# Altium integrated library Infineon_Microcontroller.IntLib: 721 symbols (part 42 of 66)
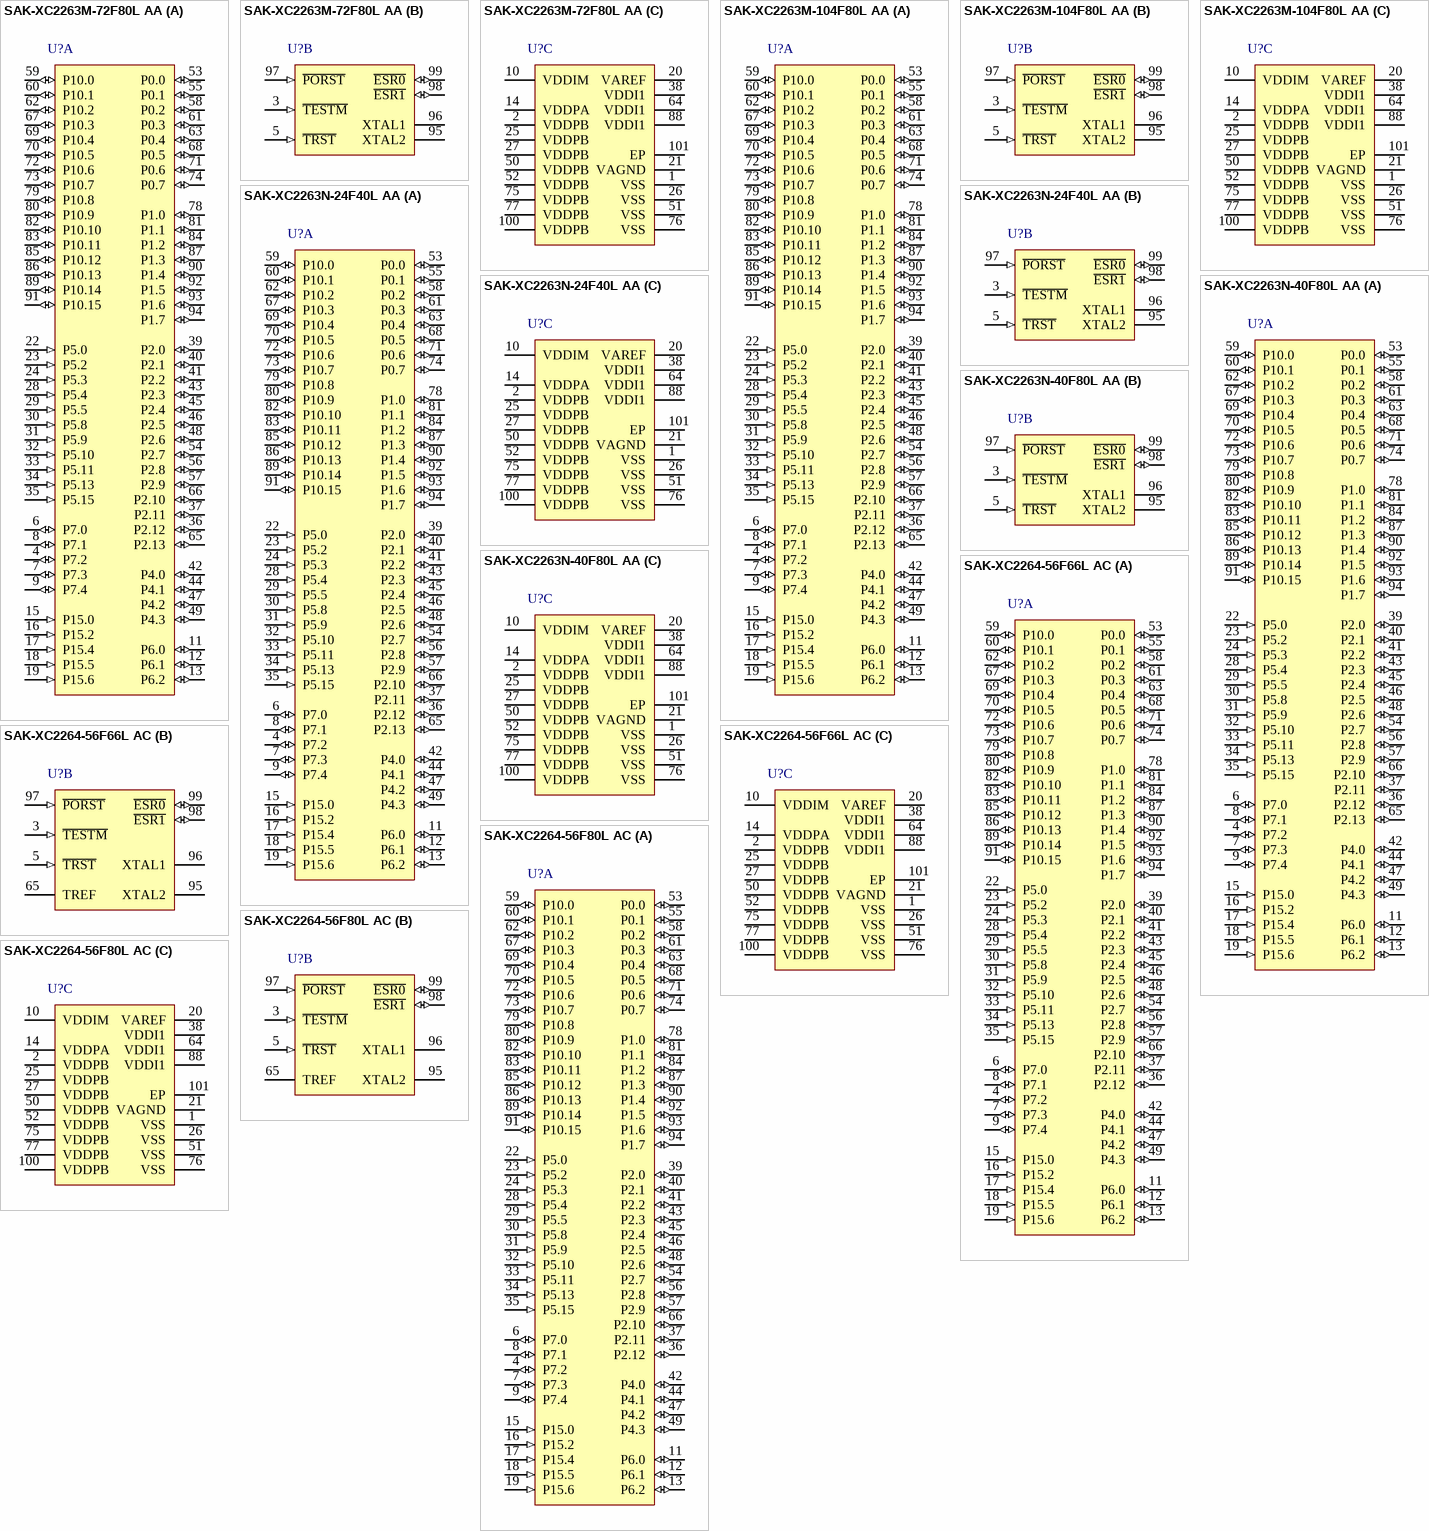
[diagram p159: symbols SAK-XC2263M-72F80L AA to SAK-XC2264-56F80L AC]

## SAK-XC2263M-72F80L AA
designator U?
80 MHz XC2200 MCU with 576 KByte Program Memory, 50 KByte SRAM, 3 V, 5.5 V, -40 to 125 degC, PG-LQFP-100, Reel, Green; Manufacturer: Infineon; PartNumber: SAK-XC2263M-72F80L AA; A / D input lines (incl. FADC): 16; CAN Nodes: 1; Digital I/O Lines: 76; DMA Channels: 8; DSP functionality (e.g MDU/MAC): TRUE; FlexRay TM: FALSE; Instruction width [bits]: 16/32; Max Clock Frequency: 80 MHz; Number of ADC Modules: 2; Power Modes: 3; Serial I/O Interfaces: 4; Timed I/O Pins (PWM-Ch,CAPCOM): up to 32; Timer / Counter: 17; Type of Memory: Flash; Type of Serial I/O Interfaces: SPI(4), LIN, UART, I2C, I2S; DatasheetVersion: Rev. 2.1; PackageVersion: Mar-13; PackageReference: PG-LQFP-100-8; PackageDescription: 100-Pin Plastic (Green) Low Profile Quad Flat Package, Body 14 x 14 mm, Pitch 0.5 mm; E2PROM Emulation (Data-Flash): TRUE; External Bus interface: TRUE; Green: TRUE; Halogen-free: available; I/O Operation Voltages: 3 V, 5.5 V; On-chip clock generation: TRUE; On-chip Voltage Regulator: TRUE; Oscillator Watchdog: TRUE; Program Memory: 576 KByte; Real Time Clock (RTC): TRUE; SRAM (incl. Cache): 50 KByte; Watchdog Timer: TRUE; Mounting Technology: Surface Mount; ComponentLink1Description: Manufacturer URL; ComponentLink1URL: http://www.infineon.com/; ComponentLink2Description: Datasheet; ComponentLink2URL: http://www.infineon.com/dgdl/xc226xm_ds_v2.1_2011_07.pdf?folderId=db3a3043132679fb01133eb909a307c3&fileId=db3a30433580b371013581363d8f004e; ComponentLink3Description: Package Specification; ComponentLink3URL: http://www.infineon.com/dgdl/PG-LQFP-100-3%2C-4%2C-8%2C-11-Package_Overview.pdf?folderId=db3a30431a5c32f2011a90c5ac475987&fileId=db3a30431a5c32f2011a9129fcd359d1
footprint INF-PG-LQFP-100-8-6200X6200TP_N (QFP, 100-Leads, Body 14x14mm, Pitch 0.5mm, Thermal Pad 6.2x6.2mm, IPC Medium Density)
footprint INF-PG-LQFP-100-8-6200X6200TP_L (QFP, 100-Leads, Body 14x14mm, Pitch 0.5mm, Thermal Pad 6.2x6.2mm, IPC High Density)
footprint INF-PG-LQFP-100-8-6200X6200TP_M (QFP, 100-Leads, Body 14x14mm, Pitch 0.5mm, Thermal Pad 6.2x6.2mm, IPC Low Density)
part A pins: 4 P7.2 (io), 6 P7.0 (io), 7 P7.3 (io), 8 P7.1 (io), 9 P7.4 (io), 11 P6.0 (io), 12 P6.1 (io), 13 P6.2 (io), 15 P15.0 (in), 16 P15.2 (in), 17 P15.4 (in), 18 P15.5 (in), 19 P15.6 (in), 22 P5.0 (in), 23 P5.2 (in), 24 P5.3 (in), 28 P5.4 (in), 29 P5.5 (in), 30 P5.8 (in), 31 P5.9 (in), 32 P5.10 (in), 33 P5.11 (in), 34 P5.13 (in), 35 P5.15 (in), 36 P2.12 (io), 37 P2.11 (io), 39 P2.0 (io), 40 P2.1 (io), 41 P2.2 (io), 42 P4.0 (io), 43 P2.3 (io), 44 P4.1 (io), 45 P2.4 (io), 46 P2.5 (io), 47 P4.2 (io), 48 P2.6 (io), 49 P4.3 (io), 53 P0.0 (io), 54 P2.7 (io), 55 P0.1 (io), 56 P2.8 (io), 57 P2.9 (io), 58 P0.2 (io), 59 P10.0 (io), 60 P10.1 (io), 61 P0.3 (io), 62 P10.2 (io), 63 P0.4 (io), 65 P2.13 (io), 66 P2.10 (io), 67 P10.3 (io), 68 P0.5 (io), 69 P10.4 (io), 70 P10.5 (io), 71 P0.6 (io), 72 P10.6 (io), 73 P10.7 (io), 74 P0.7 (io), 78 P1.0 (io), 79 P10.8 (io), 80 P10.9 (io), 81 P1.1 (io), 82 P10.10 (io), 83 P10.11 (io), 84 P1.2 (io), 85 P10.12 (io), 86 P10.13 (io), 87 P1.3 (io), 89 P10.14 (io), 90 P1.4 (io), 91 P10.15 (io), 92 P1.5 (io), 93 P1.6 (io), 94 P1.7 (io)
part B pins: 3 ~{TESTM} (in) "Testmode Enable", 5 ~{TRST} (in) "Test-System Reset Input", 95 XTAL2 "Crystal Oscillator Amplifier Output.", 96 XTAL1, 97 ~{PORST} (in) "Power On Reset Input.", 98 ~{ESR1} (io), 99 ~{ESR0} (io)
part C pins: 1 VSS (power) "Digital Ground.", 2 VDDPB (power) "Digital Pad Supply Voltage for Domain B.", 10 VDDIM (power) "Digital Core Supply Voltage for Domain M", 14 VDDPA (power) "Digital Pad Supply Voltage for Domain A.", 20 VAREF (power) "Reference Voltage for A/D Converters ADC0/1", 21 VAGND (power) "Reference Ground for A/D Converters ADC0/1", 25 VDDPB (power) "Digital Pad Supply Voltage for Domain B.", 26 VSS (power) "Digital Ground.", 27 VDDPB (power) "Digital Pad Supply Voltage for Domain B.", 38 VDDI1 (power) "Digital Core Supply Voltage for Domain 1", 50 VDDPB (power) "Digital Pad Supply Voltage for Domain B.", 51 VSS (power) "Digital Ground.", 52 VDDPB (power) "Digital Pad Supply Voltage for Domain B.", 64 VDDI1 (power) "Digital Core Supply Voltage for Domain 1", 75 VDDPB (power) "Digital Pad Supply Voltage for Domain B.", 76 VSS (power) "Digital Ground.", 77 VDDPB (power) "Digital Pad Supply Voltage for Domain B.", 88 VDDI1 (power) "Digital Core Supply Voltage for Domain 1", 100 VDDPB (power) "Digital Pad Supply Voltage for Domain B.", 101 EP (power)

## SAK-XC2263M-104F80L AA
designator U?
80 MHz XC2200 MCU with 832 KByte Program Memory, 50 KByte SRAM, 3 V, 5.5 V, -40 to 125 degC, PG-LQFP-100, Reel, Green; Manufacturer: Infineon; PartNumber: SAK-XC2263M-104F80L AA; A / D input lines (incl. FADC): 16; CAN Nodes: 1; Digital I/O Lines: 76; DMA Channels: 8; DSP functionality (e.g MDU/MAC): TRUE; FlexRay TM: FALSE; Instruction width [bits]: 16/32; Max Clock Frequency: 80 MHz; Number of ADC Modules: 2; Power Modes: 3; Serial I/O Interfaces: 4; Timed I/O Pins (PWM-Ch,CAPCOM): up to 32; Timer / Counter: 17; Type of Memory: Flash; Type of Serial I/O Interfaces: SPI(4), LIN, UART, I2C, I2S; DatasheetVersion: Rev. 2.1; PackageVersion: Mar-13; PackageReference: PG-LQFP-100-8; PackageDescription: 100-Pin Plastic (Green) Low Profile Quad Flat Package, Body 14 x 14 mm, Pitch 0.5 mm; E2PROM Emulation (Data-Flash): TRUE; External Bus interface: TRUE; Green: TRUE; Halogen-free: available; I/O Operation Voltages: 3 V, 5.5 V; On-chip clock generation: TRUE; On-chip Voltage Regulator: TRUE; Oscillator Watchdog: TRUE; Program Memory: 832 KByte; Real Time Clock (RTC): TRUE; SRAM (incl. Cache): 50 KByte; Watchdog Timer: TRUE; Mounting Technology: Surface Mount; ComponentLink1Description: Manufacturer URL; ComponentLink1URL: http://www.infineon.com/; ComponentLink2Description: Datasheet; ComponentLink2URL: http://www.infineon.com/dgdl/xc226xm_ds_v2.1_2011_07.pdf?folderId=db3a3043132679fb01133eb909a307c3&fileId=db3a30433580b371013581363d8f004e; ComponentLink3Description: Package Specification; ComponentLink3URL: http://www.infineon.com/dgdl/PG-LQFP-100-3%2C-4%2C-8%2C-11-Package_Overview.pdf?folderId=db3a30431a5c32f2011a90c5ac475987&fileId=db3a30431a5c32f2011a9129fcd359d1
footprint INF-PG-LQFP-100-8-6200X6200TP_N (QFP, 100-Leads, Body 14x14mm, Pitch 0.5mm, Thermal Pad 6.2x6.2mm, IPC Medium Density)
footprint INF-PG-LQFP-100-8-6200X6200TP_L (QFP, 100-Leads, Body 14x14mm, Pitch 0.5mm, Thermal Pad 6.2x6.2mm, IPC High Density)
footprint INF-PG-LQFP-100-8-6200X6200TP_M (QFP, 100-Leads, Body 14x14mm, Pitch 0.5mm, Thermal Pad 6.2x6.2mm, IPC Low Density)
part A pins: 4 P7.2 (io), 6 P7.0 (io), 7 P7.3 (io), 8 P7.1 (io), 9 P7.4 (io), 11 P6.0 (io), 12 P6.1 (io), 13 P6.2 (io), 15 P15.0 (in), 16 P15.2 (in), 17 P15.4 (in), 18 P15.5 (in), 19 P15.6 (in), 22 P5.0 (in), 23 P5.2 (in), 24 P5.3 (in), 28 P5.4 (in), 29 P5.5 (in), 30 P5.8 (in), 31 P5.9 (in), 32 P5.10 (in), 33 P5.11 (in), 34 P5.13 (in), 35 P5.15 (in), 36 P2.12 (io), 37 P2.11 (io), 39 P2.0 (io), 40 P2.1 (io), 41 P2.2 (io), 42 P4.0 (io), 43 P2.3 (io), 44 P4.1 (io), 45 P2.4 (io), 46 P2.5 (io), 47 P4.2 (io), 48 P2.6 (io), 49 P4.3 (io), 53 P0.0 (io), 54 P2.7 (io), 55 P0.1 (io), 56 P2.8 (io), 57 P2.9 (io), 58 P0.2 (io), 59 P10.0 (io), 60 P10.1 (io), 61 P0.3 (io), 62 P10.2 (io), 63 P0.4 (io), 65 P2.13 (io), 66 P2.10 (io), 67 P10.3 (io), 68 P0.5 (io), 69 P10.4 (io), 70 P10.5 (io), 71 P0.6 (io), 72 P10.6 (io), 73 P10.7 (io), 74 P0.7 (io), 78 P1.0 (io), 79 P10.8 (io), 80 P10.9 (io), 81 P1.1 (io), 82 P10.10 (io), 83 P10.11 (io), 84 P1.2 (io), 85 P10.12 (io), 86 P10.13 (io), 87 P1.3 (io), 89 P10.14 (io), 90 P1.4 (io), 91 P10.15 (io), 92 P1.5 (io), 93 P1.6 (io), 94 P1.7 (io)
part B pins: 3 ~{TESTM} (in) "Testmode Enable", 5 ~{TRST} (in) "Test-System Reset Input", 95 XTAL2 "Crystal Oscillator Amplifier Output.", 96 XTAL1, 97 ~{PORST} (in) "Power On Reset Input.", 98 ~{ESR1} (io), 99 ~{ESR0} (io)
part C pins: 1 VSS (power) "Digital Ground.", 2 VDDPB (power) "Digital Pad Supply Voltage for Domain B.", 10 VDDIM (power) "Digital Core Supply Voltage for Domain M", 14 VDDPA (power) "Digital Pad Supply Voltage for Domain A.", 20 VAREF (power) "Reference Voltage for A/D Converters ADC0/1", 21 VAGND (power) "Reference Ground for A/D Converters ADC0/1", 25 VDDPB (power) "Digital Pad Supply Voltage for Domain B.", 26 VSS (power) "Digital Ground.", 27 VDDPB (power) "Digital Pad Supply Voltage for Domain B.", 38 VDDI1 (power) "Digital Core Supply Voltage for Domain 1", 50 VDDPB (power) "Digital Pad Supply Voltage for Domain B.", 51 VSS (power) "Digital Ground.", 52 VDDPB (power) "Digital Pad Supply Voltage for Domain B.", 64 VDDI1 (power) "Digital Core Supply Voltage for Domain 1", 75 VDDPB (power) "Digital Pad Supply Voltage for Domain B.", 76 VSS (power) "Digital Ground.", 77 VDDPB (power) "Digital Pad Supply Voltage for Domain B.", 88 VDDI1 (power) "Digital Core Supply Voltage for Domain 1", 100 VDDPB (power) "Digital Pad Supply Voltage for Domain B.", 101 EP (power)

## SAK-XC2263N-24F40L AA
designator U?
40 MHz XC2200 MCU with 192 KByte Program Memory, 34 KByte SRAM, 3 V, 5.5 V, -40 to 125 degC, PG-LQFP-100, Reel, Green; Manufacturer: Infineon; PartNumber: SAK-XC2263N-24F40L AA; A / D input lines (incl. FADC): 16; CAN Nodes: 1; Digital I/O Lines: 76; DMA Channels: 8; DSP functionality (e.g MDU/MAC): TRUE; FlexRay TM: FALSE; Instruction width [bits]: 16/32; Max Clock Frequency: 40 MHz; Number of ADC Modules: 2; Power Modes: 3; Serial I/O Interfaces: 4; Timed I/O Pins (PWM-Ch,CAPCOM): up to 32; Timer / Counter: 13; Type of Memory: Flash; Type of Serial I/O Interfaces: SPI(4), LIN, UART, I2C, I2S; DatasheetVersion: Rev. 1.5; PackageVersion: Mar-13; PackageReference: PG-LQFP-100-8; PackageDescription: 100-Pin Plastic (Green) Low Profile Quad Flat Package, Body 14 x 14 mm, Pitch 0.5 mm; Supplier 1: Mouser; Supplier Part Number 1: 726-KXC2263N24F40LAA; Supplier 2: Digi-Key; Supplier Part Number 2: SAK-XC2263N-24F40L AA-ND; E2PROM Emulation (Data-Flash): TRUE; External Bus interface: TRUE; Green: TRUE; Halogen-free: TRUE; I/O Operation Voltages: 3 V, 5.5 V; On-chip clock generation: TRUE; On-chip Voltage Regulator: TRUE; Oscillator Watchdog: TRUE; Packing: Reel; Program Memory: 192 KByte; Real Time Clock (RTC): TRUE; SRAM (incl. Cache): 34 KByte; Watchdog Timer: TRUE; Mounting Technology: Surface Mount; ComponentLink1Description: Manufacturer URL; ComponentLink1URL: http://www.infineon.com/; ComponentLink2Description: Datasheet; ComponentLink2URL: http://www.infineon.com/dgdl/xc226xn_ds_v1.4_2011_07.pdf?folderId=db3a3043132679fb01133eb909a307c3&fileId=db3a304326c2768b0126c2ef67f30017; ComponentLink3Description: Package Specification; ComponentLink3URL: http://www.infineon.com/dgdl/PG-LQFP-100-3%2C-4%2C-8%2C-11-Package_Overview.pdf?folderId=db3a30431a5c32f2011a90c5ac475987&fileId=db3a30431a5c32f2011a9129fcd359d1
footprint INF-PG-LQFP-100-8-6200X6200TP_N (QFP, 100-Leads, Body 14x14mm, Pitch 0.5mm, Thermal Pad 6.2x6.2mm, IPC Medium Density)
footprint INF-PG-LQFP-100-8-6200X6200TP_L (QFP, 100-Leads, Body 14x14mm, Pitch 0.5mm, Thermal Pad 6.2x6.2mm, IPC High Density)
footprint INF-PG-LQFP-100-8-6200X6200TP_M (QFP, 100-Leads, Body 14x14mm, Pitch 0.5mm, Thermal Pad 6.2x6.2mm, IPC Low Density)
part A pins: 4 P7.2 (io), 6 P7.0 (io), 7 P7.3 (io), 8 P7.1 (io), 9 P7.4 (io), 11 P6.0 (io), 12 P6.1 (io), 13 P6.2 (io), 15 P15.0 (in), 16 P15.2 (in), 17 P15.4 (in), 18 P15.5 (in), 19 P15.6 (in), 22 P5.0 (in), 23 P5.2 (in), 24 P5.3 (in), 28 P5.4 (in), 29 P5.5 (in), 30 P5.8 (in), 31 P5.9 (in), 32 P5.10 (in), 33 P5.11 (in), 34 P5.13 (in), 35 P5.15 (in), 36 P2.12 (io), 37 P2.11 (io), 39 P2.0 (io), 40 P2.1 (io), 41 P2.2 (io), 42 P4.0 (io), 43 P2.3 (io), 44 P4.1 (io), 45 P2.4 (io), 46 P2.5 (io), 47 P4.2 (io), 48 P2.6 (io), 49 P4.3 (io), 53 P0.0 (io), 54 P2.7 (io), 55 P0.1 (io), 56 P2.8 (io), 57 P2.9 (io), 58 P0.2 (io), 59 P10.0 (io), 60 P10.1 (io), 61 P0.3 (io), 62 P10.2 (io), 63 P0.4 (io), 65 P2.13 (io), 66 P2.10 (io), 67 P10.3 (io), 68 P0.5 (io), 69 P10.4 (io), 70 P10.5 (io), 71 P0.6 (io), 72 P10.6 (io), 73 P10.7 (io), 74 P0.7 (io), 78 P1.0 (io), 79 P10.8 (io), 80 P10.9 (io), 81 P1.1 (io), 82 P10.10 (io), 83 P10.11 (io), 84 P1.2 (io), 85 P10.12 (io), 86 P10.13 (io), 87 P1.3 (io), 89 P10.14 (io), 90 P1.4 (io), 91 P10.15 (io), 92 P1.5 (io), 93 P1.6 (io), 94 P1.7 (io)
part B pins: 3 ~{TESTM} (in) "Testmode Enable", 5 ~{TRST} (in) "Test-System Reset Input", 95 XTAL2 "Crystal Oscillator Amplifier Output.", 96 XTAL1, 97 ~{PORST} (in) "Power On Reset Input.", 98 ~{ESR1} (io), 99 ~{ESR0} (io)
part C pins: 1 VSS (power) "Digital Ground.", 2 VDDPB (power) "Digital Pad Supply Voltage for Domain B.", 10 VDDIM (power) "Digital Core Supply Voltage for Domain M", 14 VDDPA (power) "Digital Pad Supply Voltage for Domain A.", 20 VAREF (power) "Reference Voltage for A/D Converters ADC0/1", 21 VAGND (power) "Reference Ground for A/D Converters ADC0/1", 25 VDDPB (power) "Digital Pad Supply Voltage for Domain B.", 26 VSS (power) "Digital Ground.", 27 VDDPB (power) "Digital Pad Supply Voltage for Domain B.", 38 VDDI1 (power) "Digital Core Supply Voltage for Domain 1", 50 VDDPB (power) "Digital Pad Supply Voltage for Domain B.", 51 VSS (power) "Digital Ground.", 52 VDDPB (power) "Digital Pad Supply Voltage for Domain B.", 64 VDDI1 (power) "Digital Core Supply Voltage for Domain 1", 75 VDDPB (power) "Digital Pad Supply Voltage for Domain B.", 76 VSS (power) "Digital Ground.", 77 VDDPB (power) "Digital Pad Supply Voltage for Domain B.", 88 VDDI1 (power) "Digital Core Supply Voltage for Domain 1", 100 VDDPB (power) "Digital Pad Supply Voltage for Domain B.", 101 EP (power)

## SAK-XC2263N-40F80L AA
designator U?
80 MHz XC2200 MCU with 320 KByte Program Memory, 34 KByte SRAM, 3 V, 5.5 V, -40 to 125 degC, PG-LQFP-100, Reel, Green; Manufacturer: Infineon; PartNumber: SAK-XC2263N-40F80L AA; A / D input lines (incl. FADC): 16; CAN Nodes: 1; Digital I/O Lines: 76; DMA Channels: 8; DSP functionality (e.g MDU/MAC): TRUE; FlexRay TM: FALSE; Instruction width [bits]: 16/32; Max Clock Frequency: 80 MHz; Number of ADC Modules: 2; Power Modes: 3; Serial I/O Interfaces: 4; Timed I/O Pins (PWM-Ch,CAPCOM): up to 32; Timer / Counter: 13; Type of Memory: Flash; Type of Serial I/O Interfaces: SPI(4), LIN, UART, I2C, I2S; DatasheetVersion: Rev. 1.5; PackageVersion: Mar-13; PackageReference: PG-LQFP-100-8; PackageDescription: 100-Pin Plastic (Green) Low Profile Quad Flat Package, Body 14 x 14 mm, Pitch 0.5 mm; E2PROM Emulation (Data-Flash): TRUE; External Bus interface: TRUE; Green: TRUE; Halogen-free: available; I/O Operation Voltages: 3 V, 5.5 V; On-chip clock generation: TRUE; On-chip Voltage Regulator: TRUE; Oscillator Watchdog: TRUE; Packing: Reel; Program Memory: 320 KByte; Real Time Clock (RTC): TRUE; SRAM (incl. Cache): 34 KByte; Watchdog Timer: TRUE; Mounting Technology: Surface Mount; ComponentLink1Description: Manufacturer URL; ComponentLink1URL: http://www.infineon.com/; ComponentLink2Description: Datasheet; ComponentLink2URL: http://www.infineon.com/dgdl/xc226xn_ds_v1.4_2011_07.pdf?folderId=db3a3043132679fb01133eb909a307c3&fileId=db3a304326c2768b0126c2ef67f30017; ComponentLink3Description: Package Specification; ComponentLink3URL: http://www.infineon.com/dgdl/PG-LQFP-100-3%2C-4%2C-8%2C-11-Package_Overview.pdf?folderId=db3a30431a5c32f2011a90c5ac475987&fileId=db3a30431a5c32f2011a9129fcd359d1
footprint INF-PG-LQFP-100-8-6200X6200TP_N (QFP, 100-Leads, Body 14x14mm, Pitch 0.5mm, Thermal Pad 6.2x6.2mm, IPC Medium Density)
footprint INF-PG-LQFP-100-8-6200X6200TP_L (QFP, 100-Leads, Body 14x14mm, Pitch 0.5mm, Thermal Pad 6.2x6.2mm, IPC High Density)
footprint INF-PG-LQFP-100-8-6200X6200TP_M (QFP, 100-Leads, Body 14x14mm, Pitch 0.5mm, Thermal Pad 6.2x6.2mm, IPC Low Density)
part A pins: 4 P7.2 (io), 6 P7.0 (io), 7 P7.3 (io), 8 P7.1 (io), 9 P7.4 (io), 11 P6.0 (io), 12 P6.1 (io), 13 P6.2 (io), 15 P15.0 (in), 16 P15.2 (in), 17 P15.4 (in), 18 P15.5 (in), 19 P15.6 (in), 22 P5.0 (in), 23 P5.2 (in), 24 P5.3 (in), 28 P5.4 (in), 29 P5.5 (in), 30 P5.8 (in), 31 P5.9 (in), 32 P5.10 (in), 33 P5.11 (in), 34 P5.13 (in), 35 P5.15 (in), 36 P2.12 (io), 37 P2.11 (io), 39 P2.0 (io), 40 P2.1 (io), 41 P2.2 (io), 42 P4.0 (io), 43 P2.3 (io), 44 P4.1 (io), 45 P2.4 (io), 46 P2.5 (io), 47 P4.2 (io), 48 P2.6 (io), 49 P4.3 (io), 53 P0.0 (io), 54 P2.7 (io), 55 P0.1 (io), 56 P2.8 (io), 57 P2.9 (io), 58 P0.2 (io), 59 P10.0 (io), 60 P10.1 (io), 61 P0.3 (io), 62 P10.2 (io), 63 P0.4 (io), 65 P2.13 (io), 66 P2.10 (io), 67 P10.3 (io), 68 P0.5 (io), 69 P10.4 (io), 70 P10.5 (io), 71 P0.6 (io), 72 P10.6 (io), 73 P10.7 (io), 74 P0.7 (io), 78 P1.0 (io), 79 P10.8 (io), 80 P10.9 (io), 81 P1.1 (io), 82 P10.10 (io), 83 P10.11 (io), 84 P1.2 (io), 85 P10.12 (io), 86 P10.13 (io), 87 P1.3 (io), 89 P10.14 (io), 90 P1.4 (io), 91 P10.15 (io), 92 P1.5 (io), 93 P1.6 (io), 94 P1.7 (io)
part B pins: 3 ~{TESTM} (in) "Testmode Enable", 5 ~{TRST} (in) "Test-System Reset Input", 95 XTAL2 "Crystal Oscillator Amplifier Output.", 96 XTAL1, 97 ~{PORST} (in) "Power On Reset Input.", 98 ~{ESR1} (io), 99 ~{ESR0} (io)
part C pins: 1 VSS (power) "Digital Ground.", 2 VDDPB (power) "Digital Pad Supply Voltage for Domain B.", 10 VDDIM (power) "Digital Core Supply Voltage for Domain M", 14 VDDPA (power) "Digital Pad Supply Voltage for Domain A.", 20 VAREF (power) "Reference Voltage for A/D Converters ADC0/1", 21 VAGND (power) "Reference Ground for A/D Converters ADC0/1", 25 VDDPB (power) "Digital Pad Supply Voltage for Domain B.", 26 VSS (power) "Digital Ground.", 27 VDDPB (power) "Digital Pad Supply Voltage for Domain B.", 38 VDDI1 (power) "Digital Core Supply Voltage for Domain 1", 50 VDDPB (power) "Digital Pad Supply Voltage for Domain B.", 51 VSS (power) "Digital Ground.", 52 VDDPB (power) "Digital Pad Supply Voltage for Domain B.", 64 VDDI1 (power) "Digital Core Supply Voltage for Domain 1", 75 VDDPB (power) "Digital Pad Supply Voltage for Domain B.", 76 VSS (power) "Digital Ground.", 77 VDDPB (power) "Digital Pad Supply Voltage for Domain B.", 88 VDDI1 (power) "Digital Core Supply Voltage for Domain 1", 100 VDDPB (power) "Digital Pad Supply Voltage for Domain B.", 101 EP (power)

## SAK-XC2264-56F66L AC
designator U?
66 MHz XC2200 MCU with 448 KByte Program Memory, 34 KByte SRAM, 3 V, 5.5 V, -40 to 125 degC, PG-LQFP-100, Reel, Green; Manufacturer: Infineon; PartNumber: SAK-XC2264-56F66L AC; A / D input lines (incl. FADC): 8; CAN Nodes: 2; Digital I/O Lines: 75; DSP functionality (e.g MDU/MAC): TRUE; FlexRay TM: FALSE; Instruction width [bits]: 16/32; Max Clock Frequency: 66 MHz; Number of ADC Modules: 1; Power Modes: 3; Serial I/O Interfaces: 4; Timed I/O Pins (PWM-Ch,CAPCOM): 44; Timer / Counter: 11; Type of Memory: Flash; Type of Serial I/O Interfaces: SPI(2), LIN(2); DatasheetVersion: Rev. 2.1; PackageVersion: Mar-13; PackageReference: PG-LQFP-100-3; PackageDescription: 100-Pin Plastic (Green) Low Profile Quad Flat Package, Body 14 x 14 mm, Pitch 0.5 mm; Supplier 1: Digi-Key; Supplier Part Number 1: SAK-XC2264-56F66LACINTR-ND; Supplier 2: Digi-Key; Supplier Part Number 2: SAK-XC2264-56F66LACINCT-ND; Supplier 3: Digi-Key; Supplier Part Number 3: SAK-XC2264-56F66LACINDKR-ND; DMA Channels: 8; E2PROM Emulation (Data-Flash): TRUE; External Bus interface: TRUE; Green: TRUE; Halogen-free: TRUE; I/O Operation Voltages: 3 V, 5.5 V; On-chip clock generation: TRUE; On-chip Voltage Regulator: TRUE; Oscillator Watchdog: TRUE; Packing: Reel; Program Memory: 448 KByte; Real Time Clock (RTC): TRUE; SRAM (incl. Cache): 34 KByte; Watchdog Timer: TRUE; Mounting Technology: Surface Mount; ComponentLink1Description: Manufacturer URL; ComponentLink1URL: http://www.infineon.com/; ComponentLink2Description: Datasheet; ComponentLink2URL: http://www.infineon.com/dgdl/xc226x_ds_v2.1_2008_08.pdf?folderId=db3a304412b407950112b408e8c90004&fileId=db3a304412b407950112b4093b04016a; ComponentLink3Description: Package Specification; ComponentLink3URL: http://www.infineon.com/dgdl/PG-LQFP-100-3%2C-4%2C-8%2C-11-Package_Overview.pdf?folderId=db3a30431a5c32f2011a90c5ac475987&fileId=db3a30431a5c32f2011a9129fcd359d1
footprint INF-PG-LQFP-100-3-6200X6200TP_N (QFP, 100-Leads, Body 14x14mm, Pitch 0.5mm, Thermal Pad 6.2x6.2mm, IPC Medium Density)
footprint INF-PG-LQFP-100-3-6200X6200TP_L (QFP, 100-Leads, Body 14x14mm, Pitch 0.5mm, Thermal Pad 6.2x6.2mm, IPC High Density)
footprint INF-PG-LQFP-100-3-6200X6200TP_M (QFP, 100-Leads, Body 14x14mm, Pitch 0.5mm, Thermal Pad 6.2x6.2mm, IPC Low Density)
part A pins: 4 P7.2 (io), 6 P7.0 (io), 7 P7.3 (io), 8 P7.1 (io), 9 P7.4 (io), 11 P6.0 (io), 12 P6.1 (io), 13 P6.2 (io), 15 P15.0 (in), 16 P15.2 (in), 17 P15.4 (in), 18 P15.5 (in), 19 P15.6 (in), 22 P5.0 (in), 23 P5.2 (in), 24 P5.3 (in), 28 P5.4 (in), 29 P5.5 (in), 30 P5.8 (in), 31 P5.9 (in), 32 P5.10 (in), 33 P5.11 (in), 34 P5.13 (in), 35 P5.15 (in), 36 P2.12 (io), 37 P2.11 (io), 39 P2.0 (io), 40 P2.1 (io), 41 P2.2 (io), 42 P4.0 (io), 43 P2.3 (io), 44 P4.1 (io), 45 P2.4 (io), 46 P2.5 (io), 47 P4.2 (io), 48 P2.6 (io), 49 P4.3 (io), 53 P0.0 (io), 54 P2.7 (io), 55 P0.1 (io), 56 P2.8 (io), 57 P2.9 (io), 58 P0.2 (io), 59 P10.0 (io), 60 P10.1 (io), 61 P0.3 (io), 62 P10.2 (io), 63 P0.4 (io), 66 P2.10 (io), 67 P10.3 (io), 68 P0.5 (io), 69 P10.4 (io), 70 P10.5 (io), 71 P0.6 (io), 72 P10.6 (io), 73 P10.7 (io), 74 P0.7 (io), 78 P1.0 (io), 79 P10.8 (io), 80 P10.9 (io), 81 P1.1 (io), 82 P10.10 (io), 83 P10.11 (io), 84 P1.2 (io), 85 P10.12 (io), 86 P10.13 (io), 87 P1.3 (io), 89 P10.14 (io), 90 P1.4 (io), 91 P10.15 (io), 92 P1.5 (io), 93 P1.6 (io), 94 P1.7 (io)
part B pins: 3 ~{TESTM} (in) "Testmode Enable", 5 ~{TRST} (in) "Test-System Reset Input", 65 TREF "Control Pin for Core Voltage Generation", 95 XTAL2 "Crystal Oscillator Amplifier Output.", 96 XTAL1 "Crystal Oscillator Amplifier Input.", 97 ~{PORST} (in) "Power On Reset Input.", 98 ~{ESR1} (io), 99 ~{ESR0} (io)
part C pins: 1 VSS (power) "Digital Ground.", 2 VDDPB (power) "Digital Pad Supply Voltage for Domain B.", 10 VDDIM (power) "Digital Core Supply Voltage for Domain M", 14 VDDPA (power) "Digital Pad Supply Voltage for Domain A.", 20 VAREF (power) "Reference Voltage for A/D Converters ADC0/1", 21 VAGND (power) "Reference Ground for A/D Converters ADC0/1", 25 VDDPB (power) "Digital Pad Supply Voltage for Domain B.", 26 VSS (power) "Digital Ground.", 27 VDDPB (power) "Digital Pad Supply Voltage for Domain B.", 38 VDDI1 (power) "Digital Core Supply Voltage for Domain 1", 50 VDDPB (power) "Digital Pad Supply Voltage for Domain B.", 51 VSS (power) "Digital Ground.", 52 VDDPB (power) "Digital Pad Supply Voltage for Domain B.", 64 VDDI1 (power) "Digital Core Supply Voltage for Domain 1", 75 VDDPB (power) "Digital Pad Supply Voltage for Domain B.", 76 VSS (power) "Digital Ground.", 77 VDDPB (power) "Digital Pad Supply Voltage for Domain B.", 88 VDDI1 (power) "Digital Core Supply Voltage for Domain 1", 100 VDDPB (power) "Digital Pad Supply Voltage for Domain B.", 101 EP (power)

## SAK-XC2264-56F80L AC
designator U?
80 MHz XC2200 MCU with 448 KByte Program Memory, 34 KByte SRAM, 3 V, 5.5 V, -40 to 125 degC, PG-LQFP-100, Reel, Green; Manufacturer: Infineon; PartNumber: SAK-XC2264-56F80L AC; A / D input lines (incl. FADC): 8; CAN Nodes: 2; Digital I/O Lines: 75; DSP functionality (e.g MDU/MAC): TRUE; FlexRay TM: FALSE; Instruction width [bits]: 16/32; Max Clock Frequency: 80 MHz; Number of ADC Modules: 1; Power Modes: 3; Serial I/O Interfaces: 4; Timed I/O Pins (PWM-Ch,CAPCOM): 24; Timer / Counter: 11; Type of Memory: Flash; Type of Serial I/O Interfaces: SPI(2), LIN(2); DatasheetVersion: Rev. 2.1; PackageVersion: Mar-13; PackageReference: PG-LQFP-100-3; PackageDescription: 100-Pin Plastic (Green) Low Profile Quad Flat Package, Body 14 x 14 mm, Pitch 0.5 mm; DMA Channels: 8; E2PROM Emulation (Data-Flash): TRUE; External Bus interface: TRUE; Green: TRUE; I/O Operation Voltages: 3 V, 5.5 V; On-chip clock generation: TRUE; On-chip Voltage Regulator: TRUE; Oscillator Watchdog: TRUE; Program Memory: 448 KByte; Real Time Clock (RTC): TRUE; SRAM (incl. Cache): 34 KByte; Watchdog Timer: TRUE; Mounting Technology: Surface Mount; ComponentLink1Description: Manufacturer URL; ComponentLink1URL: http://www.infineon.com/; ComponentLink2Description: Datasheet; ComponentLink2URL: http://www.infineon.com/dgdl/xc226x_ds_v2.1_2008_08.pdf?folderId=db3a304412b407950112b408e8c90004&fileId=db3a304412b407950112b4093b04016a; ComponentLink3Description: Package Specification; ComponentLink3URL: http://www.infineon.com/dgdl/PG-LQFP-100-3%2C-4%2C-8%2C-11-Package_Overview.pdf?folderId=db3a30431a5c32f2011a90c5ac475987&fileId=db3a30431a5c32f2011a9129fcd359d1
footprint INF-PG-LQFP-100-3-6200X6200TP_N (QFP, 100-Leads, Body 14x14mm, Pitch 0.5mm, Thermal Pad 6.2x6.2mm, IPC Medium Density)
footprint INF-PG-LQFP-100-3-6200X6200TP_L (QFP, 100-Leads, Body 14x14mm, Pitch 0.5mm, Thermal Pad 6.2x6.2mm, IPC High Density)
footprint INF-PG-LQFP-100-3-6200X6200TP_M (QFP, 100-Leads, Body 14x14mm, Pitch 0.5mm, Thermal Pad 6.2x6.2mm, IPC Low Density)
part A pins: 4 P7.2 (io), 6 P7.0 (io), 7 P7.3 (io), 8 P7.1 (io), 9 P7.4 (io), 11 P6.0 (io), 12 P6.1 (io), 13 P6.2 (io), 15 P15.0 (in), 16 P15.2 (in), 17 P15.4 (in), 18 P15.5 (in), 19 P15.6 (in), 22 P5.0 (in), 23 P5.2 (in), 24 P5.3 (in), 28 P5.4 (in), 29 P5.5 (in), 30 P5.8 (in), 31 P5.9 (in), 32 P5.10 (in), 33 P5.11 (in), 34 P5.13 (in), 35 P5.15 (in), 36 P2.12 (io), 37 P2.11 (io), 39 P2.0 (io), 40 P2.1 (io), 41 P2.2 (io), 42 P4.0 (io), 43 P2.3 (io), 44 P4.1 (io), 45 P2.4 (io), 46 P2.5 (io), 47 P4.2 (io), 48 P2.6 (io), 49 P4.3 (io), 53 P0.0 (io), 54 P2.7 (io), 55 P0.1 (io), 56 P2.8 (io), 57 P2.9 (io), 58 P0.2 (io), 59 P10.0 (io), 60 P10.1 (io), 61 P0.3 (io), 62 P10.2 (io), 63 P0.4 (io), 66 P2.10 (io), 67 P10.3 (io), 68 P0.5 (io), 69 P10.4 (io), 70 P10.5 (io), 71 P0.6 (io), 72 P10.6 (io), 73 P10.7 (io), 74 P0.7 (io), 78 P1.0 (io), 79 P10.8 (io), 80 P10.9 (io), 81 P1.1 (io), 82 P10.10 (io), 83 P10.11 (io), 84 P1.2 (io), 85 P10.12 (io), 86 P10.13 (io), 87 P1.3 (io), 89 P10.14 (io), 90 P1.4 (io), 91 P10.15 (io), 92 P1.5 (io), 93 P1.6 (io), 94 P1.7 (io)
part B pins: 3 ~{TESTM} (in) "Testmode Enable", 5 ~{TRST} (in) "Test-System Reset Input", 65 TREF "Control Pin for Core Voltage Generation", 95 XTAL2 "Crystal Oscillator Amplifier Output.", 96 XTAL1 "Crystal Oscillator Amplifier Input.", 97 ~{PORST} (in) "Power On Reset Input.", 98 ~{ESR1} (io), 99 ~{ESR0} (io)
part C pins: 1 VSS (power) "Digital Ground.", 2 VDDPB (power) "Digital Pad Supply Voltage for Domain B.", 10 VDDIM (power) "Digital Core Supply Voltage for Domain M", 14 VDDPA (power) "Digital Pad Supply Voltage for Domain A.", 20 VAREF (power) "Reference Voltage for A/D Converters ADC0/1", 21 VAGND (power) "Reference Ground for A/D Converters ADC0/1", 25 VDDPB (power) "Digital Pad Supply Voltage for Domain B.", 26 VSS (power) "Digital Ground.", 27 VDDPB (power) "Digital Pad Supply Voltage for Domain B.", 38 VDDI1 (power) "Digital Core Supply Voltage for Domain 1", 50 VDDPB (power) "Digital Pad Supply Voltage for Domain B.", 51 VSS (power) "Digital Ground.", 52 VDDPB (power) "Digital Pad Supply Voltage for Domain B.", 64 VDDI1 (power) "Digital Core Supply Voltage for Domain 1", 75 VDDPB (power) "Digital Pad Supply Voltage for Domain B.", 76 VSS (power) "Digital Ground.", 77 VDDPB (power) "Digital Pad Supply Voltage for Domain B.", 88 VDDI1 (power) "Digital Core Supply Voltage for Domain 1", 100 VDDPB (power) "Digital Pad Supply Voltage for Domain B.", 101 EP (power)

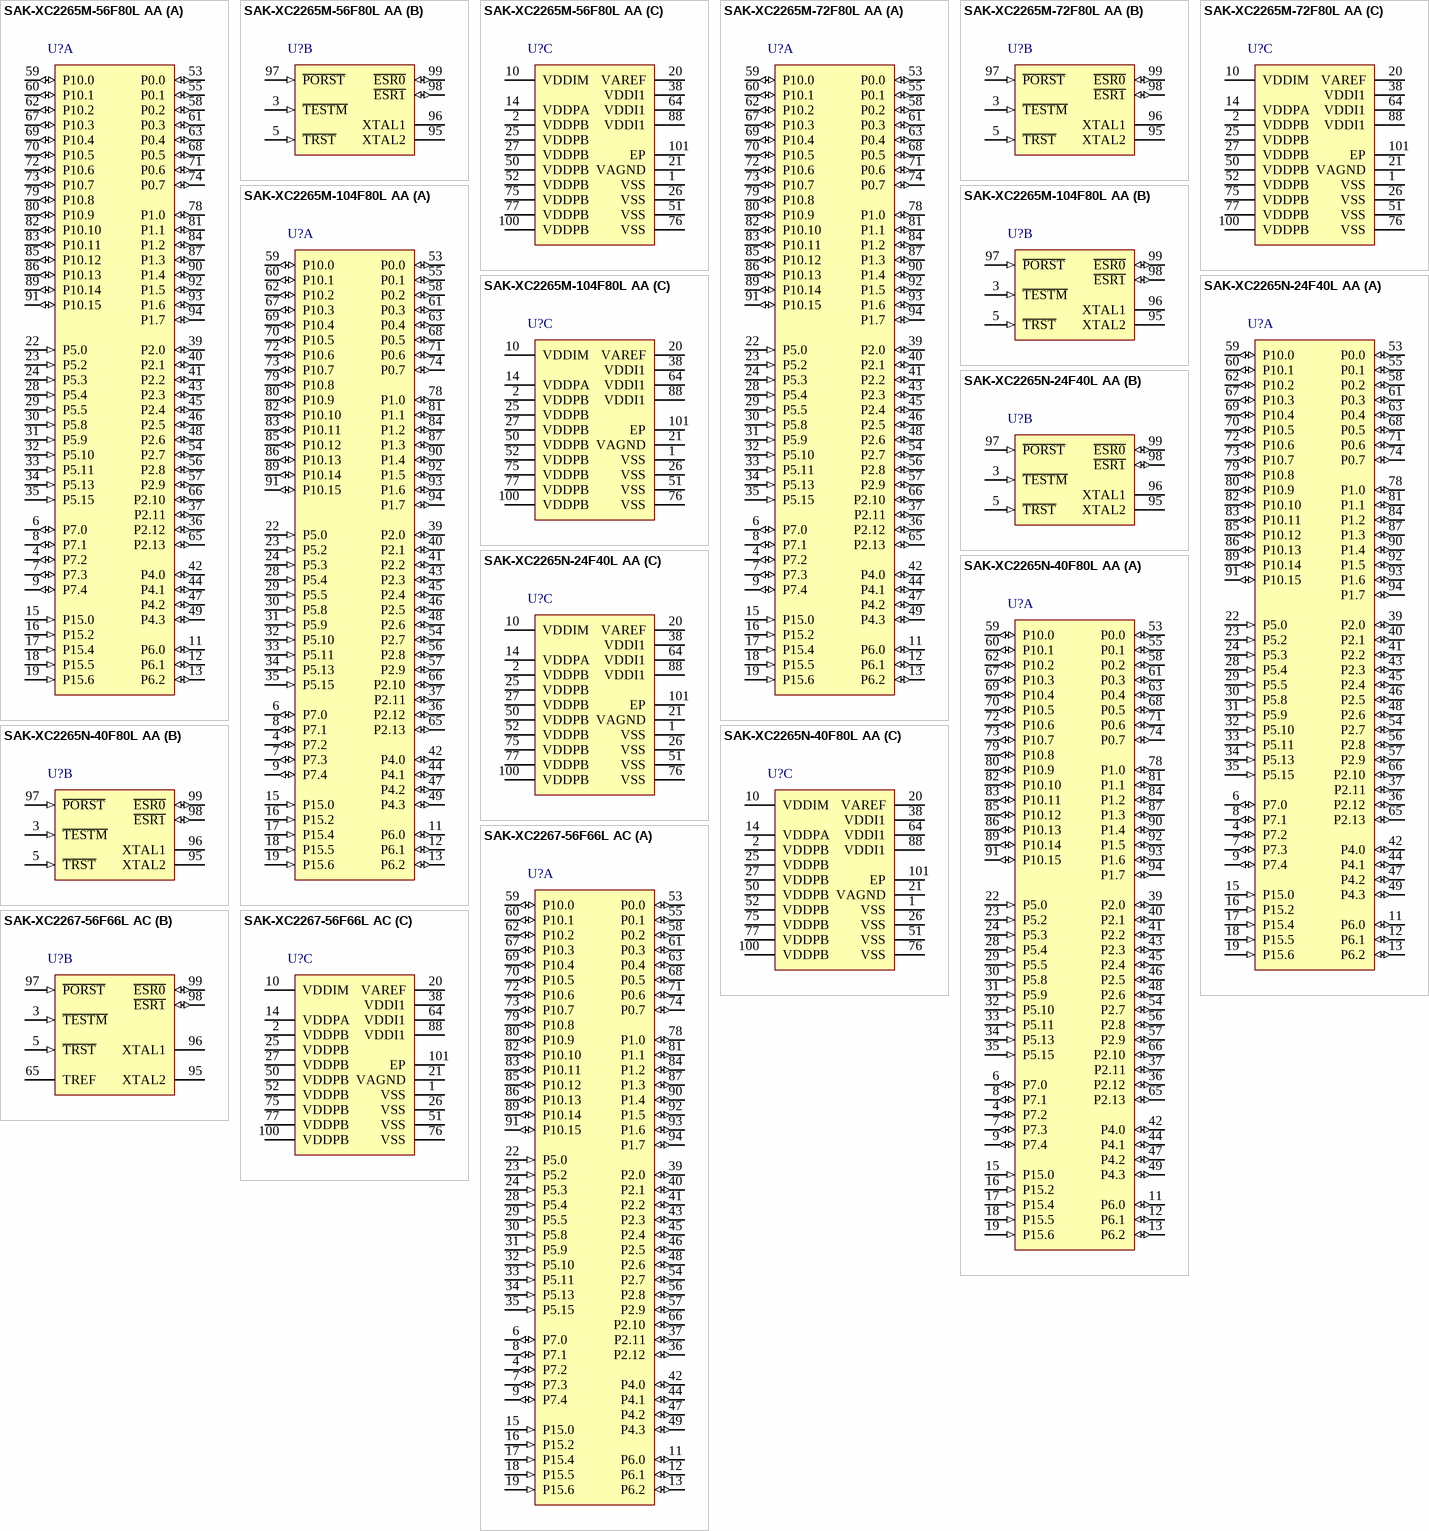
[diagram p74: symbols SAK-XC2265M-56F80L AA to SAK-XC2267-56F66L AC]

## SAK-XC2265M-56F80L AA
designator U?
80 MHz XC2200 MCU with 448 KByte Program Memory, 50 KByte SRAM, 3 V, 5.5 V, -40 to 125 degC, PG-LQFP-100, Reel, Green; Manufacturer: Infineon; PartNumber: SAK-XC2265M-56F80L AA; A / D input lines (incl. FADC): 16; CAN Nodes: 3; Digital I/O Lines: 76; DMA Channels: 8; DSP functionality (e.g MDU/MAC): TRUE; FlexRay TM: FALSE; Instruction width [bits]: 16/32; Max Clock Frequency: 80 MHz; Number of ADC Modules: 2; Serial I/O Interfaces: 6; Timed I/O Pins (PWM-Ch,CAPCOM): up to 32; Timer / Counter: 17; Type of Memory: Flash; Type of Serial I/O Interfaces: SPI(6), LIN, UART, I2C, I2S; DatasheetVersion: Rev. 2.1; PackageVersion: Mar-13; PackageReference: PG-LQFP-100-8; PackageDescription: 100-Pin Plastic (Green) Low Profile Quad Flat Package, Body 14 x 14 mm, Pitch 0.5 mm; E2PROM Emulation (Data-Flash): TRUE; External Bus interface: TRUE; Green: TRUE; I/O Operation Voltages: 3 V, 5.5 V; On-chip clock generation: TRUE; On-chip Voltage Regulator: TRUE; Oscillator Watchdog: TRUE; Packing: Reel; Power Modes: 3; Program Memory: 448 KByte; Real Time Clock (RTC): TRUE; SRAM (incl. Cache): 50 KByte; Watchdog Timer: TRUE; Mounting Technology: Surface Mount; ComponentLink1Description: Manufacturer URL; ComponentLink1URL: http://www.infineon.com/; ComponentLink2Description: Datasheet; ComponentLink2URL: http://www.infineon.com/dgdl/xc226xm_ds_v2.1_2011_07.pdf?folderId=db3a3043132679fb01133eb909a307c3&fileId=db3a30433580b371013581363d8f004e; ComponentLink3Description: Package Specification; ComponentLink3URL: http://www.infineon.com/dgdl/PG-LQFP-100-3%2C-4%2C-8%2C-11-Package_Overview.pdf?folderId=db3a30431a5c32f2011a90c5ac475987&fileId=db3a30431a5c32f2011a9129fcd359d1
footprint INF-PG-LQFP-100-8-6200X6200TP_N (QFP, 100-Leads, Body 14x14mm, Pitch 0.5mm, Thermal Pad 6.2x6.2mm, IPC Medium Density)
footprint INF-PG-LQFP-100-8-6200X6200TP_L (QFP, 100-Leads, Body 14x14mm, Pitch 0.5mm, Thermal Pad 6.2x6.2mm, IPC High Density)
footprint INF-PG-LQFP-100-8-6200X6200TP_M (QFP, 100-Leads, Body 14x14mm, Pitch 0.5mm, Thermal Pad 6.2x6.2mm, IPC Low Density)
part A pins: 4 P7.2 (io), 6 P7.0 (io), 7 P7.3 (io), 8 P7.1 (io), 9 P7.4 (io), 11 P6.0 (io), 12 P6.1 (io), 13 P6.2 (io), 15 P15.0 (in), 16 P15.2 (in), 17 P15.4 (in), 18 P15.5 (in), 19 P15.6 (in), 22 P5.0 (in), 23 P5.2 (in), 24 P5.3 (in), 28 P5.4 (in), 29 P5.5 (in), 30 P5.8 (in), 31 P5.9 (in), 32 P5.10 (in), 33 P5.11 (in), 34 P5.13 (in), 35 P5.15 (in), 36 P2.12 (io), 37 P2.11 (io), 39 P2.0 (io), 40 P2.1 (io), 41 P2.2 (io), 42 P4.0 (io), 43 P2.3 (io), 44 P4.1 (io), 45 P2.4 (io), 46 P2.5 (io), 47 P4.2 (io), 48 P2.6 (io), 49 P4.3 (io), 53 P0.0 (io), 54 P2.7 (io), 55 P0.1 (io), 56 P2.8 (io), 57 P2.9 (io), 58 P0.2 (io), 59 P10.0 (io), 60 P10.1 (io), 61 P0.3 (io), 62 P10.2 (io), 63 P0.4 (io), 65 P2.13 (io), 66 P2.10 (io), 67 P10.3 (io), 68 P0.5 (io), 69 P10.4 (io), 70 P10.5 (io), 71 P0.6 (io), 72 P10.6 (io), 73 P10.7 (io), 74 P0.7 (io), 78 P1.0 (io), 79 P10.8 (io), 80 P10.9 (io), 81 P1.1 (io), 82 P10.10 (io), 83 P10.11 (io), 84 P1.2 (io), 85 P10.12 (io), 86 P10.13 (io), 87 P1.3 (io), 89 P10.14 (io), 90 P1.4 (io), 91 P10.15 (io), 92 P1.5 (io), 93 P1.6 (io), 94 P1.7 (io)
part B pins: 3 ~{TESTM} (in) "Testmode Enable", 5 ~{TRST} (in) "Test-System Reset Input", 95 XTAL2 "Crystal Oscillator Amplifier Output.", 96 XTAL1, 97 ~{PORST} (in) "Power On Reset Input.", 98 ~{ESR1} (io), 99 ~{ESR0} (io)
part C pins: 1 VSS (power) "Digital Ground.", 2 VDDPB (power) "Digital Pad Supply Voltage for Domain B.", 10 VDDIM (power) "Digital Core Supply Voltage for Domain M", 14 VDDPA (power) "Digital Pad Supply Voltage for Domain A.", 20 VAREF (power) "Reference Voltage for A/D Converters ADC0/1", 21 VAGND (power) "Reference Ground for A/D Converters ADC0/1", 25 VDDPB (power) "Digital Pad Supply Voltage for Domain B.", 26 VSS (power) "Digital Ground.", 27 VDDPB (power) "Digital Pad Supply Voltage for Domain B.", 38 VDDI1 (power) "Digital Core Supply Voltage for Domain 1", 50 VDDPB (power) "Digital Pad Supply Voltage for Domain B.", 51 VSS (power) "Digital Ground.", 52 VDDPB (power) "Digital Pad Supply Voltage for Domain B.", 64 VDDI1 (power) "Digital Core Supply Voltage for Domain 1", 75 VDDPB (power) "Digital Pad Supply Voltage for Domain B.", 76 VSS (power) "Digital Ground.", 77 VDDPB (power) "Digital Pad Supply Voltage for Domain B.", 88 VDDI1 (power) "Digital Core Supply Voltage for Domain 1", 100 VDDPB (power) "Digital Pad Supply Voltage for Domain B.", 101 EP (power)

## SAK-XC2265M-72F80L AA
designator U?
80 MHz XC2200 MCU with 576 KByte Program Memory, 50 KByte SRAM, 3 V, 5.5 V, -40 to 125 degC, PG-LQFP-100, Reel, Green; Manufacturer: Infineon; PartNumber: SAK-XC2265M-72F80L AA; A / D input lines (incl. FADC): 16; CAN Nodes: 3; Digital I/O Lines: 76; DMA Channels: 8; DSP functionality (e.g MDU/MAC): TRUE; FlexRay TM: FALSE; Instruction width [bits]: 16/32; Max Clock Frequency: 80 MHz; Number of ADC Modules: 2; Serial I/O Interfaces: 6; Timed I/O Pins (PWM-Ch,CAPCOM): up to 32; Timer / Counter: 17; Type of Memory: Flash; Type of Serial I/O Interfaces: SPI(6), LIN, UART, I2C, I2S; DatasheetVersion: Rev. 2.1; PackageVersion: Mar-13; PackageReference: PG-LQFP-100-8; PackageDescription: 100-Pin Plastic (Green) Low Profile Quad Flat Package, Body 14 x 14 mm, Pitch 0.5 mm; E2PROM Emulation (Data-Flash): TRUE; External Bus interface: TRUE; Green: TRUE; I/O Operation Voltages: 3 V, 5.5 V; On-chip clock generation: TRUE; On-chip Voltage Regulator: TRUE; Oscillator Watchdog: TRUE; Packing: Reel; Power Modes: 3; Program Memory: 576 KByte; Real Time Clock (RTC): TRUE; SRAM (incl. Cache): 50 KByte; Watchdog Timer: TRUE; Mounting Technology: Surface Mount; ComponentLink1Description: Manufacturer URL; ComponentLink1URL: http://www.infineon.com/; ComponentLink2Description: Datasheet; ComponentLink2URL: http://www.infineon.com/dgdl/xc226xm_ds_v2.1_2011_07.pdf?folderId=db3a3043132679fb01133eb909a307c3&fileId=db3a30433580b371013581363d8f004e; ComponentLink3Description: Package Specification; ComponentLink3URL: http://www.infineon.com/dgdl/PG-LQFP-100-3%2C-4%2C-8%2C-11-Package_Overview.pdf?folderId=db3a30431a5c32f2011a90c5ac475987&fileId=db3a30431a5c32f2011a9129fcd359d1
footprint INF-PG-LQFP-100-8-6200X6200TP_N (QFP, 100-Leads, Body 14x14mm, Pitch 0.5mm, Thermal Pad 6.2x6.2mm, IPC Medium Density)
footprint INF-PG-LQFP-100-8-6200X6200TP_L (QFP, 100-Leads, Body 14x14mm, Pitch 0.5mm, Thermal Pad 6.2x6.2mm, IPC High Density)
footprint INF-PG-LQFP-100-8-6200X6200TP_M (QFP, 100-Leads, Body 14x14mm, Pitch 0.5mm, Thermal Pad 6.2x6.2mm, IPC Low Density)
part A pins: 4 P7.2 (io), 6 P7.0 (io), 7 P7.3 (io), 8 P7.1 (io), 9 P7.4 (io), 11 P6.0 (io), 12 P6.1 (io), 13 P6.2 (io), 15 P15.0 (in), 16 P15.2 (in), 17 P15.4 (in), 18 P15.5 (in), 19 P15.6 (in), 22 P5.0 (in), 23 P5.2 (in), 24 P5.3 (in), 28 P5.4 (in), 29 P5.5 (in), 30 P5.8 (in), 31 P5.9 (in), 32 P5.10 (in), 33 P5.11 (in), 34 P5.13 (in), 35 P5.15 (in), 36 P2.12 (io), 37 P2.11 (io), 39 P2.0 (io), 40 P2.1 (io), 41 P2.2 (io), 42 P4.0 (io), 43 P2.3 (io), 44 P4.1 (io), 45 P2.4 (io), 46 P2.5 (io), 47 P4.2 (io), 48 P2.6 (io), 49 P4.3 (io), 53 P0.0 (io), 54 P2.7 (io), 55 P0.1 (io), 56 P2.8 (io), 57 P2.9 (io), 58 P0.2 (io), 59 P10.0 (io), 60 P10.1 (io), 61 P0.3 (io), 62 P10.2 (io), 63 P0.4 (io), 65 P2.13 (io), 66 P2.10 (io), 67 P10.3 (io), 68 P0.5 (io), 69 P10.4 (io), 70 P10.5 (io), 71 P0.6 (io), 72 P10.6 (io), 73 P10.7 (io), 74 P0.7 (io), 78 P1.0 (io), 79 P10.8 (io), 80 P10.9 (io), 81 P1.1 (io), 82 P10.10 (io), 83 P10.11 (io), 84 P1.2 (io), 85 P10.12 (io), 86 P10.13 (io), 87 P1.3 (io), 89 P10.14 (io), 90 P1.4 (io), 91 P10.15 (io), 92 P1.5 (io), 93 P1.6 (io), 94 P1.7 (io)
part B pins: 3 ~{TESTM} (in) "Testmode Enable", 5 ~{TRST} (in) "Test-System Reset Input", 95 XTAL2 "Crystal Oscillator Amplifier Output.", 96 XTAL1, 97 ~{PORST} (in) "Power On Reset Input.", 98 ~{ESR1} (io), 99 ~{ESR0} (io)
part C pins: 1 VSS (power) "Digital Ground.", 2 VDDPB (power) "Digital Pad Supply Voltage for Domain B.", 10 VDDIM (power) "Digital Core Supply Voltage for Domain M", 14 VDDPA (power) "Digital Pad Supply Voltage for Domain A.", 20 VAREF (power) "Reference Voltage for A/D Converters ADC0/1", 21 VAGND (power) "Reference Ground for A/D Converters ADC0/1", 25 VDDPB (power) "Digital Pad Supply Voltage for Domain B.", 26 VSS (power) "Digital Ground.", 27 VDDPB (power) "Digital Pad Supply Voltage for Domain B.", 38 VDDI1 (power) "Digital Core Supply Voltage for Domain 1", 50 VDDPB (power) "Digital Pad Supply Voltage for Domain B.", 51 VSS (power) "Digital Ground.", 52 VDDPB (power) "Digital Pad Supply Voltage for Domain B.", 64 VDDI1 (power) "Digital Core Supply Voltage for Domain 1", 75 VDDPB (power) "Digital Pad Supply Voltage for Domain B.", 76 VSS (power) "Digital Ground.", 77 VDDPB (power) "Digital Pad Supply Voltage for Domain B.", 88 VDDI1 (power) "Digital Core Supply Voltage for Domain 1", 100 VDDPB (power) "Digital Pad Supply Voltage for Domain B.", 101 EP (power)

## SAK-XC2265M-104F80L AA
designator U?
80 MHz XC2200 MCU with 832 KByte Program Memory, 50 KByte SRAM, 3 V, 5.5 V, -40 to 125 degC, PG-LQFP-100, Reel, Green; Manufacturer: Infineon; PartNumber: SAK-XC2265M-104F80L AA; A / D input lines (incl. FADC): 16; CAN Nodes: 3; Digital I/O Lines: 76; DMA Channels: 8; DSP functionality (e.g MDU/MAC): TRUE; FlexRay TM: FALSE; Instruction width [bits]: 16/32; Max Clock Frequency: 80 MHz; Number of ADC Modules: 2; Serial I/O Interfaces: 6; Timed I/O Pins (PWM-Ch,CAPCOM): up to 32; Timer / Counter: 17; Type of Memory: Flash; Type of Serial I/O Interfaces: SPI(6), LIN, UART, I2C, I2S; DatasheetVersion: Rev. 2.1; PackageVersion: Mar-13; PackageReference: PG-LQFP-100-8; PackageDescription: 100-Pin Plastic (Green) Low Profile Quad Flat Package, Body 14 x 14 mm, Pitch 0.5 mm; E2PROM Emulation (Data-Flash): TRUE; External Bus interface: TRUE; Green: TRUE; Halogen-free: available; I/O Operation Voltages: 3 V, 5.5 V; On-chip clock generation: TRUE; On-chip Voltage Regulator: TRUE; Oscillator Watchdog: TRUE; Power Modes: 3; Program Memory: 832 KByte; Real Time Clock (RTC): TRUE; SRAM (incl. Cache): 50 KByte; Watchdog Timer: TRUE; Mounting Technology: Surface Mount; ComponentLink1Description: Manufacturer URL; ComponentLink1URL: http://www.infineon.com/; ComponentLink2Description: Datasheet; ComponentLink2URL: http://www.infineon.com/dgdl/xc226xm_ds_v2.1_2011_07.pdf?folderId=db3a3043132679fb01133eb909a307c3&fileId=db3a30433580b371013581363d8f004e; ComponentLink3Description: Package Specification; ComponentLink3URL: http://www.infineon.com/dgdl/PG-LQFP-100-3%2C-4%2C-8%2C-11-Package_Overview.pdf?folderId=db3a30431a5c32f2011a90c5ac475987&fileId=db3a30431a5c32f2011a9129fcd359d1
footprint INF-PG-LQFP-100-8-6200X6200TP_N (QFP, 100-Leads, Body 14x14mm, Pitch 0.5mm, Thermal Pad 6.2x6.2mm, IPC Medium Density)
footprint INF-PG-LQFP-100-8-6200X6200TP_L (QFP, 100-Leads, Body 14x14mm, Pitch 0.5mm, Thermal Pad 6.2x6.2mm, IPC High Density)
footprint INF-PG-LQFP-100-8-6200X6200TP_M (QFP, 100-Leads, Body 14x14mm, Pitch 0.5mm, Thermal Pad 6.2x6.2mm, IPC Low Density)
part A pins: 4 P7.2 (io), 6 P7.0 (io), 7 P7.3 (io), 8 P7.1 (io), 9 P7.4 (io), 11 P6.0 (io), 12 P6.1 (io), 13 P6.2 (io), 15 P15.0 (in), 16 P15.2 (in), 17 P15.4 (in), 18 P15.5 (in), 19 P15.6 (in), 22 P5.0 (in), 23 P5.2 (in), 24 P5.3 (in), 28 P5.4 (in), 29 P5.5 (in), 30 P5.8 (in), 31 P5.9 (in), 32 P5.10 (in), 33 P5.11 (in), 34 P5.13 (in), 35 P5.15 (in), 36 P2.12 (io), 37 P2.11 (io), 39 P2.0 (io), 40 P2.1 (io), 41 P2.2 (io), 42 P4.0 (io), 43 P2.3 (io), 44 P4.1 (io), 45 P2.4 (io), 46 P2.5 (io), 47 P4.2 (io), 48 P2.6 (io), 49 P4.3 (io), 53 P0.0 (io), 54 P2.7 (io), 55 P0.1 (io), 56 P2.8 (io), 57 P2.9 (io), 58 P0.2 (io), 59 P10.0 (io), 60 P10.1 (io), 61 P0.3 (io), 62 P10.2 (io), 63 P0.4 (io), 65 P2.13 (io), 66 P2.10 (io), 67 P10.3 (io), 68 P0.5 (io), 69 P10.4 (io), 70 P10.5 (io), 71 P0.6 (io), 72 P10.6 (io), 73 P10.7 (io), 74 P0.7 (io), 78 P1.0 (io), 79 P10.8 (io), 80 P10.9 (io), 81 P1.1 (io), 82 P10.10 (io), 83 P10.11 (io), 84 P1.2 (io), 85 P10.12 (io), 86 P10.13 (io), 87 P1.3 (io), 89 P10.14 (io), 90 P1.4 (io), 91 P10.15 (io), 92 P1.5 (io), 93 P1.6 (io), 94 P1.7 (io)
part B pins: 3 ~{TESTM} (in) "Testmode Enable", 5 ~{TRST} (in) "Test-System Reset Input", 95 XTAL2 "Crystal Oscillator Amplifier Output.", 96 XTAL1, 97 ~{PORST} (in) "Power On Reset Input.", 98 ~{ESR1} (io), 99 ~{ESR0} (io)
part C pins: 1 VSS (power) "Digital Ground.", 2 VDDPB (power) "Digital Pad Supply Voltage for Domain B.", 10 VDDIM (power) "Digital Core Supply Voltage for Domain M", 14 VDDPA (power) "Digital Pad Supply Voltage for Domain A.", 20 VAREF (power) "Reference Voltage for A/D Converters ADC0/1", 21 VAGND (power) "Reference Ground for A/D Converters ADC0/1", 25 VDDPB (power) "Digital Pad Supply Voltage for Domain B.", 26 VSS (power) "Digital Ground.", 27 VDDPB (power) "Digital Pad Supply Voltage for Domain B.", 38 VDDI1 (power) "Digital Core Supply Voltage for Domain 1", 50 VDDPB (power) "Digital Pad Supply Voltage for Domain B.", 51 VSS (power) "Digital Ground.", 52 VDDPB (power) "Digital Pad Supply Voltage for Domain B.", 64 VDDI1 (power) "Digital Core Supply Voltage for Domain 1", 75 VDDPB (power) "Digital Pad Supply Voltage for Domain B.", 76 VSS (power) "Digital Ground.", 77 VDDPB (power) "Digital Pad Supply Voltage for Domain B.", 88 VDDI1 (power) "Digital Core Supply Voltage for Domain 1", 100 VDDPB (power) "Digital Pad Supply Voltage for Domain B.", 101 EP (power)

## SAK-XC2265N-24F40L AA
designator U?
40 MHz XC2200 MCU with 192 KByte Program Memory, 34 KByte SRAM, 3 V, 5.5 V, -40 to 125 degC, PG-LQFP-100, Reel, Green; Manufacturer: Infineon; PartNumber: SAK-XC2265N-24F40L AA; A / D input lines (incl. FADC): 16; CAN Nodes: 3; Digital I/O Lines: 76; DMA Channels: 8; DSP functionality (e.g MDU/MAC): TRUE; FlexRay TM: FALSE; Instruction width [bits]: 16/32; Max Clock Frequency: 40 MHz; Number of ADC Modules: 2; Serial I/O Interfaces: 6; Timed I/O Pins (PWM-Ch,CAPCOM): up to 32; Timer / Counter: 13; Type of Memory: Flash; Type of Serial I/O Interfaces: SPI(6), LIN, UART, I2C, I2S; DatasheetVersion: Rev. 1.5; PackageVersion: Mar-13; PackageReference: PG-LQFP-100-8; PackageDescription: 100-Pin Plastic (Green) Low Profile Quad Flat Package, Body 14 x 14 mm, Pitch 0.5 mm; Supplier 1: Digi-Key; Supplier Part Number 1: SAK-XC2265N-24F40L AA-ND; E2PROM Emulation (Data-Flash): TRUE; External Bus interface: TRUE; Green: TRUE; Halogen-free: available; I/O Operation Voltages: 3 V, 5.5 V; On-chip clock generation: TRUE; On-chip Voltage Regulator: TRUE; Oscillator Watchdog: TRUE; Power Modes: 3; Program Memory: 192 KByte; Real Time Clock (RTC): TRUE; SRAM (incl. Cache): 34 KByte; Watchdog Timer: TRUE; Mounting Technology: Surface Mount; ComponentLink1Description: Manufacturer URL; ComponentLink1URL: http://www.infineon.com/; ComponentLink2Description: Datasheet; ComponentLink2URL: http://www.infineon.com/dgdl/xc226xn_ds_v1.4_2011_07.pdf?folderId=db3a3043132679fb01133eb909a307c3&fileId=db3a304326c2768b0126c2ef67f30017; ComponentLink3Description: Package Specification; ComponentLink3URL: http://www.infineon.com/dgdl/PG-LQFP-100-3%2C-4%2C-8%2C-11-Package_Overview.pdf?folderId=db3a30431a5c32f2011a90c5ac475987&fileId=db3a30431a5c32f2011a9129fcd359d1
footprint INF-PG-LQFP-100-8-6200X6200TP_N (QFP, 100-Leads, Body 14x14mm, Pitch 0.5mm, Thermal Pad 6.2x6.2mm, IPC Medium Density)
footprint INF-PG-LQFP-100-8-6200X6200TP_L (QFP, 100-Leads, Body 14x14mm, Pitch 0.5mm, Thermal Pad 6.2x6.2mm, IPC High Density)
footprint INF-PG-LQFP-100-8-6200X6200TP_M (QFP, 100-Leads, Body 14x14mm, Pitch 0.5mm, Thermal Pad 6.2x6.2mm, IPC Low Density)
part A pins: 4 P7.2 (io), 6 P7.0 (io), 7 P7.3 (io), 8 P7.1 (io), 9 P7.4 (io), 11 P6.0 (io), 12 P6.1 (io), 13 P6.2 (io), 15 P15.0 (in), 16 P15.2 (in), 17 P15.4 (in), 18 P15.5 (in), 19 P15.6 (in), 22 P5.0 (in), 23 P5.2 (in), 24 P5.3 (in), 28 P5.4 (in), 29 P5.5 (in), 30 P5.8 (in), 31 P5.9 (in), 32 P5.10 (in), 33 P5.11 (in), 34 P5.13 (in), 35 P5.15 (in), 36 P2.12 (io), 37 P2.11 (io), 39 P2.0 (io), 40 P2.1 (io), 41 P2.2 (io), 42 P4.0 (io), 43 P2.3 (io), 44 P4.1 (io), 45 P2.4 (io), 46 P2.5 (io), 47 P4.2 (io), 48 P2.6 (io), 49 P4.3 (io), 53 P0.0 (io), 54 P2.7 (io), 55 P0.1 (io), 56 P2.8 (io), 57 P2.9 (io), 58 P0.2 (io), 59 P10.0 (io), 60 P10.1 (io), 61 P0.3 (io), 62 P10.2 (io), 63 P0.4 (io), 65 P2.13 (io), 66 P2.10 (io), 67 P10.3 (io), 68 P0.5 (io), 69 P10.4 (io), 70 P10.5 (io), 71 P0.6 (io), 72 P10.6 (io), 73 P10.7 (io), 74 P0.7 (io), 78 P1.0 (io), 79 P10.8 (io), 80 P10.9 (io), 81 P1.1 (io), 82 P10.10 (io), 83 P10.11 (io), 84 P1.2 (io), 85 P10.12 (io), 86 P10.13 (io), 87 P1.3 (io), 89 P10.14 (io), 90 P1.4 (io), 91 P10.15 (io), 92 P1.5 (io), 93 P1.6 (io), 94 P1.7 (io)
part B pins: 3 ~{TESTM} (in) "Testmode Enable", 5 ~{TRST} (in) "Test-System Reset Input", 95 XTAL2 "Crystal Oscillator Amplifier Output.", 96 XTAL1, 97 ~{PORST} (in) "Power On Reset Input.", 98 ~{ESR1} (io), 99 ~{ESR0} (io)
part C pins: 1 VSS (power) "Digital Ground.", 2 VDDPB (power) "Digital Pad Supply Voltage for Domain B.", 10 VDDIM (power) "Digital Core Supply Voltage for Domain M", 14 VDDPA (power) "Digital Pad Supply Voltage for Domain A.", 20 VAREF (power) "Reference Voltage for A/D Converters ADC0/1", 21 VAGND (power) "Reference Ground for A/D Converters ADC0/1", 25 VDDPB (power) "Digital Pad Supply Voltage for Domain B.", 26 VSS (power) "Digital Ground.", 27 VDDPB (power) "Digital Pad Supply Voltage for Domain B.", 38 VDDI1 (power) "Digital Core Supply Voltage for Domain 1", 50 VDDPB (power) "Digital Pad Supply Voltage for Domain B.", 51 VSS (power) "Digital Ground.", 52 VDDPB (power) "Digital Pad Supply Voltage for Domain B.", 64 VDDI1 (power) "Digital Core Supply Voltage for Domain 1", 75 VDDPB (power) "Digital Pad Supply Voltage for Domain B.", 76 VSS (power) "Digital Ground.", 77 VDDPB (power) "Digital Pad Supply Voltage for Domain B.", 88 VDDI1 (power) "Digital Core Supply Voltage for Domain 1", 100 VDDPB (power) "Digital Pad Supply Voltage for Domain B.", 101 EP (power)